# Altium schematic symbol library sym-0006.SchLib: 1 symbol
Pins are listed as number, name and electrical type; pins without a type are passive.

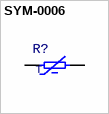
[diagram p0: symbol SYM-0006]

## SYM-0006
designator R?
NTC
pins: 1, 2
1 alternate drawing of the same symbol
text: T